# Altium schematic symbol library MSP430.SchLib: 5 symbols
Pins are listed as number, name and electrical type; pins without a type are passive.

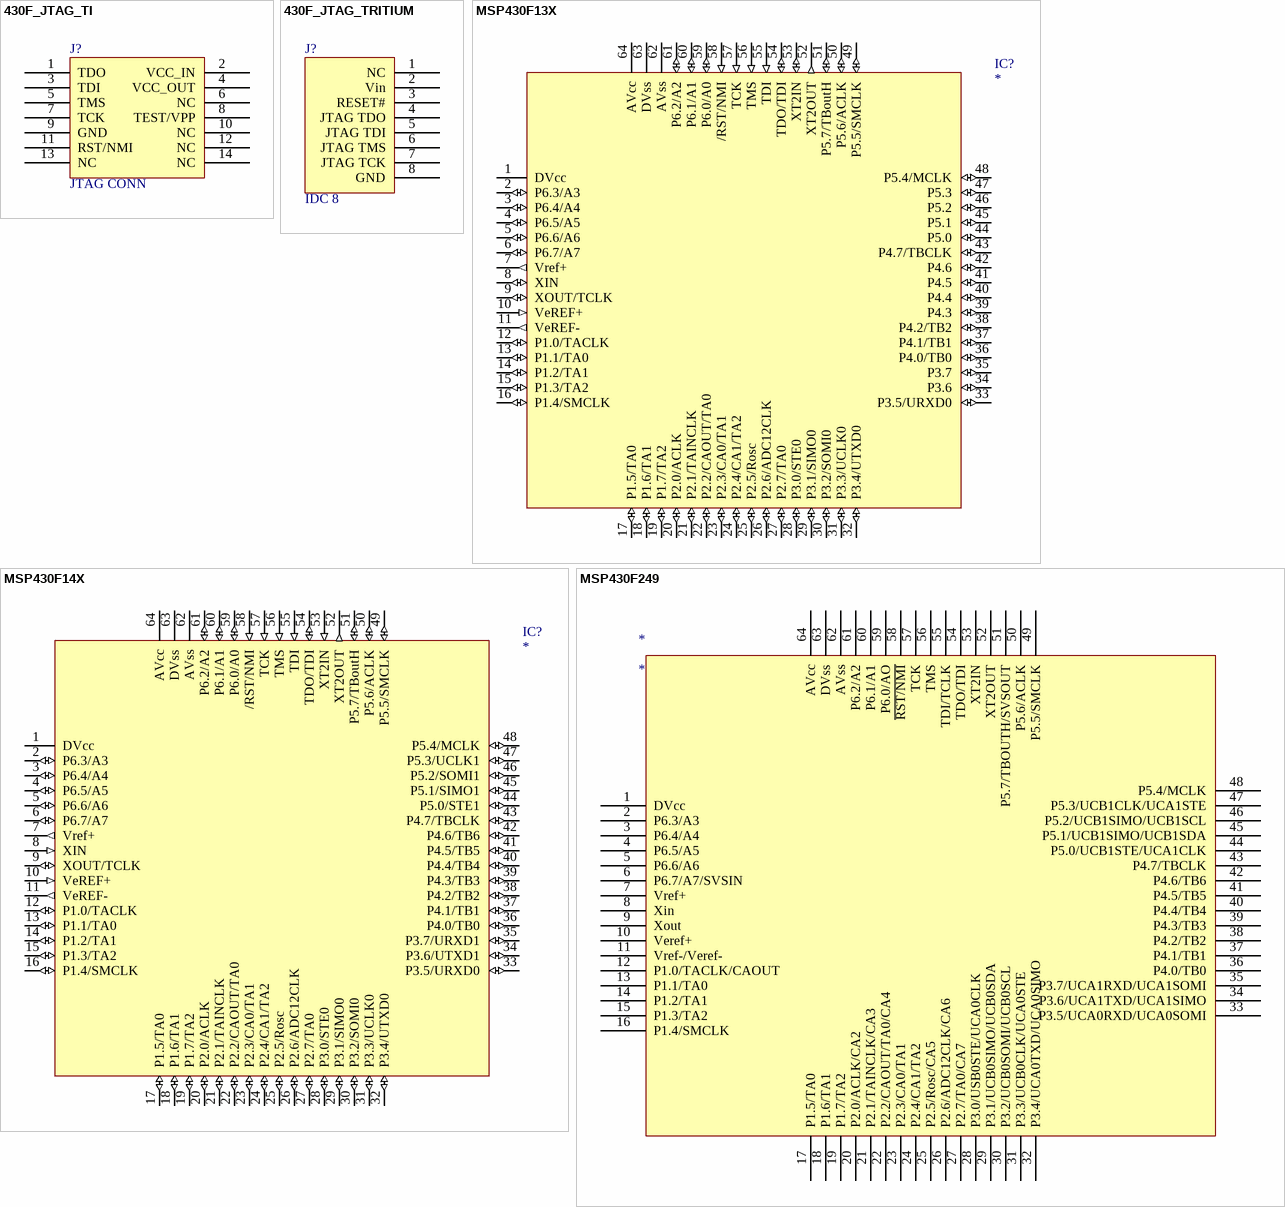
[diagram p0: symbols 430F_JTAG_TI to MSP430F249]

## 430F_JTAG_TI
designator J?, comment JTAG CONN
JTAG interface for TI MSP430
footprint IDC14
pins: 1 TDO, 2 VCC_IN, 3 TDI, 4 VCC_OUT, 5 TMS, 6 NC, 7 TCK, 8 TEST/VPP, 9 GND, 10 NC, 11 RST/NMI, 12 NC, 13 NC, 14 NC

## 430F_JTAG_TRITIUM
designator J?, comment IDC 8
Tritium JTAG interface for MSP430
footprint IDC8
pins: 1 NC, 2 Vin, 3 RESET#, 4 JTAG TDO, 5 JTAG TDI, 6 JTAG TMS, 7 JTAG TCK, 8 GND

## MSP430F13X
designator IC?
footprint S-PQFP-G64
pins: 1 DVcc (power), 2 P6.3/A3 (io), 3 P6.4/A4 (io), 4 P6.5/A5 (io), 5 P6.6/A6 (io), 6 P6.7/A7 (io), 7 Vref+ (out), 8 XIN (io), 9 XOUT/TCLK (io), 10 VeREF+ (in), 11 VeREF- (out), 12 P1.0/TACLK (io), 13 P1.1/TA0 (io), 14 P1.2/TA1 (io), 15 P1.3/TA2 (io), 16 P1.4/SMCLK (io), 17 P1.5/TA0 (io), 18 P1.6/TA1 (io), 19 P1.7/TA2 (io), 20 P2.0/ACLK (io), 21 P2.1/TAINCLK (io), 22 P2.2/CAOUT/TA0 (io), 23 P2.3/CA0/TA1 (io), 24 P2.4/CA1/TA2 (io), 25 P2.5/Rosc (io), 26 P2.6/ADC12CLK (io), 27 P2.7/TA0 (io), 28 P3.0/STE0 (io), 29 P3.1/SIMO0 (io), 30 P3.2/SOMI0 (io), 31 P3.3/UCLK0 (io), 32 P3.4/UTXD0 (io), 33 P3.5/URXD0 (io), 34 P3.6 (io), 35 P3.7 (io), 36 P4.0/TB0 (io), 37 P4.1/TB1 (io), 38 P4.2/TB2 (io), 39 P4.3 (io), 40 P4.4 (io), 41 P4.5 (io), 42 P4.6 (io), 43 P4.7/TBCLK (io), 44 P5.0 (io), 45 P5.1 (io), 46 P5.2 (io), 47 P5.3 (io), 48 P5.4/MCLK (io), 49 P5.5/SMCLK (io), 50 P5.6/ACLK (io), 51 P5.7/TBoutH (io), 52 XT2OUT (out), 53 XT2IN (io), 54 TDO/TDI (io), 55 TDI (in), 56 TMS (in), 57 TCK (in), 58 /RST/NMI (in), 59 P6.0/A0 (io), 60 P6.1/A1 (io), 61 P6.2/A2 (io), 62 AVss (power), 63 DVss (power), 64 AVcc (power)

## MSP430F14X
designator IC?
footprint S-PQFP-G64
pins: 1 DVcc (power), 2 P6.3/A3 (io), 3 P6.4/A4 (io), 4 P6.5/A5 (io), 5 P6.6/A6 (io), 6 P6.7/A7 (io), 7 Vref+ (out), 8 XIN (in), 9 XOUT/TCLK (io), 10 VeREF+ (in), 11 VeREF- (out), 12 P1.0/TACLK (io), 13 P1.1/TA0 (io), 14 P1.2/TA1 (io), 15 P1.3/TA2 (io), 16 P1.4/SMCLK (io), 17 P1.5/TA0 (io), 18 P1.6/TA1 (io), 19 P1.7/TA2 (io), 20 P2.0/ACLK (io), 21 P2.1/TAINCLK (io), 22 P2.2/CAOUT/TA0 (io), 23 P2.3/CA0/TA1 (io), 24 P2.4/CA1/TA2 (io), 25 P2.5/Rosc (io), 26 P2.6/ADC12CLK (io), 27 P2.7/TA0 (io), 28 P3.0/STE0 (io), 29 P3.1/SIMO0 (io), 30 P3.2/SOMI0 (io), 31 P3.3/UCLK0 (io), 32 P3.4/UTXD0 (io), 33 P3.5/URXD0 (io), 34 P3.6/UTXD1 (io), 35 P3.7/URXD1 (io), 36 P4.0/TB0 (io), 37 P4.1/TB1 (io), 38 P4.2/TB2 (io), 39 P4.3/TB3 (io), 40 P4.4/TB4 (io), 41 P4.5/TB5 (io), 42 P4.6/TB6 (io), 43 P4.7/TBCLK (io), 44 P5.0/STE1 (io), 45 P5.1/SIMO1 (io), 46 P5.2/SOMI1 (io), 47 P5.3/UCLK1 (io), 48 P5.4/MCLK (io), 49 P5.5/SMCLK (io), 50 P5.6/ACLK (io), 51 P5.7/TBoutH (io), 52 XT2OUT (out), 53 XT2IN (in), 54 TDO/TDI (io), 55 TDI (in), 56 TMS (in), 57 TCK (in), 58 /RST/NMI (in), 59 P6.0/A0 (io), 60 P6.1/A1 (io), 61 P6.2/A2 (io), 62 AVss (power), 63 DVss (power), 64 AVcc (power)

## MSP430F249
designator *
footprint QFP64
pins: 1 DVcc, 2 P6.3/A3, 3 P6.4/A4, 4 P6.5/A5, 5 P6.6/A6, 6 P6.7/A7/SVSIN, 7 Vref+, 8 Xin, 9 Xout, 10 Veref+, 11 Vref-/Veref-, 12 P1.0/TACLK/CAOUT, 13 P1.1/TA0, 14 P1.2/TA1, 15 P1.3/TA2, 16 P1.4/SMCLK, 17 P1.5/TA0, 18 P1.6/TA1, 19 P1.7/TA2, 20 P2.0/ACLK/CA2, 21 P2.1/TAINCLK/CA3, 22 P2.2/CAOUT/TA0/CA4, 23 P2.3/CA0/TA1, 24 P2.4/CA1/TA2, 25 P2.5/Rosc/CA5, 26 P2.6/ADC12CLK/CA6, 27 P2.7/TA0/CA7, 28 P3.0/USB0STE/UCA0CLK, 29 P3.1/UCB0SIMO/UCB0SDA, 30 P3.2/UCB0SOMI/UCB0SCL, 31 P3.3/UCB0CLK/UCA0STE, 32 P3.4/UCA0TXD/UCA0SIMO, 33 P3.5/UCA0RXD/UCA0SOMI, 34 P3.6/UCA1TXD/UCA1SIMO, 35 P3.7/UCA1RXD/UCA1SOMI, 36 P4.0/TB0, 37 P4.1/TB1, 38 P4.2/TB2, 39 P4.3/TB3, 40 P4.4/TB4, 41 P4.5/TB5, 42 P4.6/TB6, 43 P4.7/TBCLK, 44 P5.0/UCB1STE/UCA1CLK, 45 P5.1/UCB1SIMO/UCB1SDA, 46 P5.2/UCB1SIMO/UCB1SCL, 47 P5.3/UCB1CLK/UCA1STE, 48 P5.4/MCLK, 49 P5.5/SMCLK, 50 P5.6/ACLK, 51 P5.7/TBOUTH/SVSOUT, 52 XT2OUT, 53 XT2IN, 54 TDO/TDI, 55 TDI/TCLK, 56 TMS, 57 TCK, 58 ~{RST/NMI}, 59 P6.0/AO, 60 P6.1/A1, 61 P6.2/A2, 62 AVss, 63 DVss, 64 AVcc